# Altium footprint library WE-SL2.PcbLib: 1 footprints
Each footprint in its own frame and in the unit in brackets; x right, y up, seen from the top. Pads: shape width x height; smd on the part's side, far side on the other; paste and mask are expansions set on the pad; w line width, h text height; cw(c..) or ccw(c..) is an arc to the next point about the centre after c.
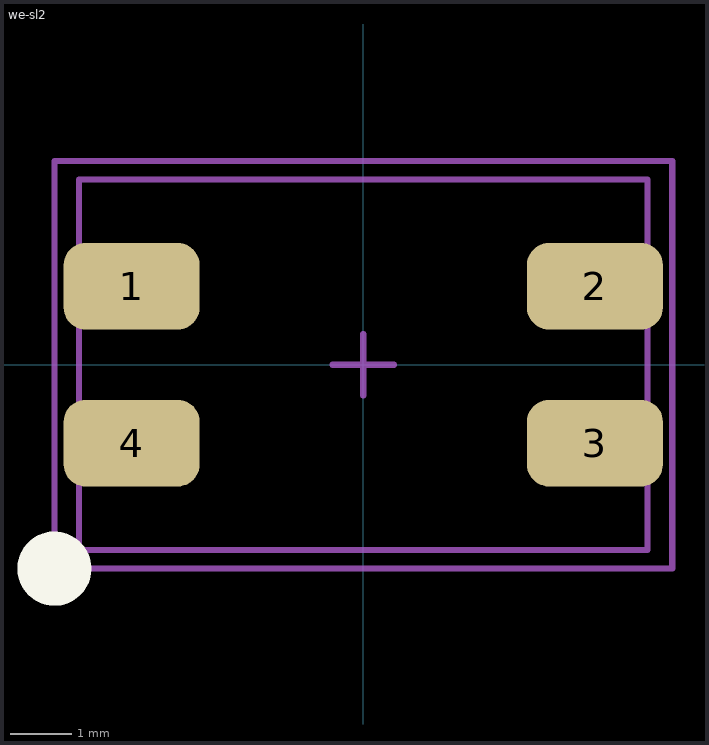
[diagram p0: the footprint, top view; thin cyan lines are the x and y axes]

## we-sl2 [mm]
pads (4):
  rrect50% 2.2x1.4 smd: 1(-3.75,1.27) 2(3.75,1.27) 3(3.75,-1.27) 4(-3.75,-1.27)
Top Overlay:
  circle w0.6: c-5,-3.3 r0.3
Top Assembly:
  lines w0.1: -0.5,0 0.5,0 ; 0,-0.5 0,0.5 ; -4.6,-3 4.6,-3 4.6,3 -4.6,3 -4.6,-3
Top Courtyard:
  lines w0.1: -5,-3.3 5,-3.3 5,3.3 -5,3.3 -5,-3.3
3D body "74422x.stp": height 5, standoff 0, extent -4.6,-3 4.6,3